# Altium footprint library JSM112V4.PcbLib: 1 footprints
Each footprint in its own frame and in the unit in brackets; x right, y up, seen from the top. Pads: shape width x height; smd on the part's side, far side on the other; paste and mask are expansions set on the pad; w line width, h text height; cw(c..) or ccw(c..) is an arc to the next point about the centre after c.
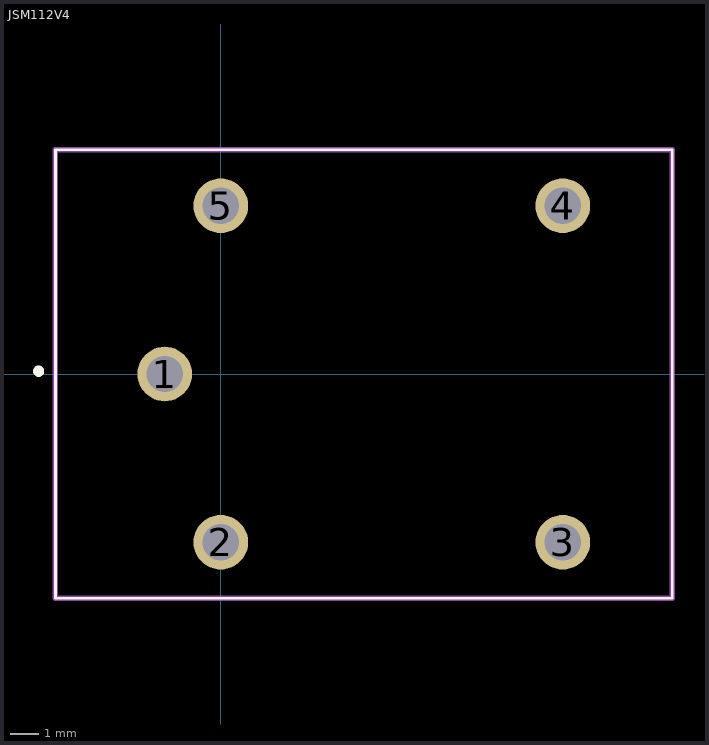
[diagram p0: the footprint, top view; thin cyan lines are the x and y axes]

## JSM112V4 [mm]
pads (5):
  round 1.95 hole 1.3: 1(-2,0) 2(0,-6) 3(12.2,-6) 4(12.2,6) 5(0,6)
L26-Silk Screen Top (Multiple PADS layers...):
  lines w0.1: -5.9,-8 -5.9,8 16.1,8 16.1,-8 -5.9,-8
  lines w0.2: -6.5,0 ccw(c-6.5,0.1) -6.5,0.2 ccw(c-6.5,0.1) -6.5,0
L15 (Multiple PADS layers...):
  lines w0.2: -5.9,-8 -5.9,8 16.1,8 16.1,-8 -5.9,-8